# Altium footprint library BasicLib.PcbLib: 20 footprints (part 1 of 2)
Each footprint in its own frame and in the unit in brackets; x right, y up, seen from the top. Pads: shape width x height; smd on the part's side, far side on the other; paste and mask are expansions set on the pad; w line width, h text height; cw(c..) or ccw(c..) is an arc to the next point about the centre after c.
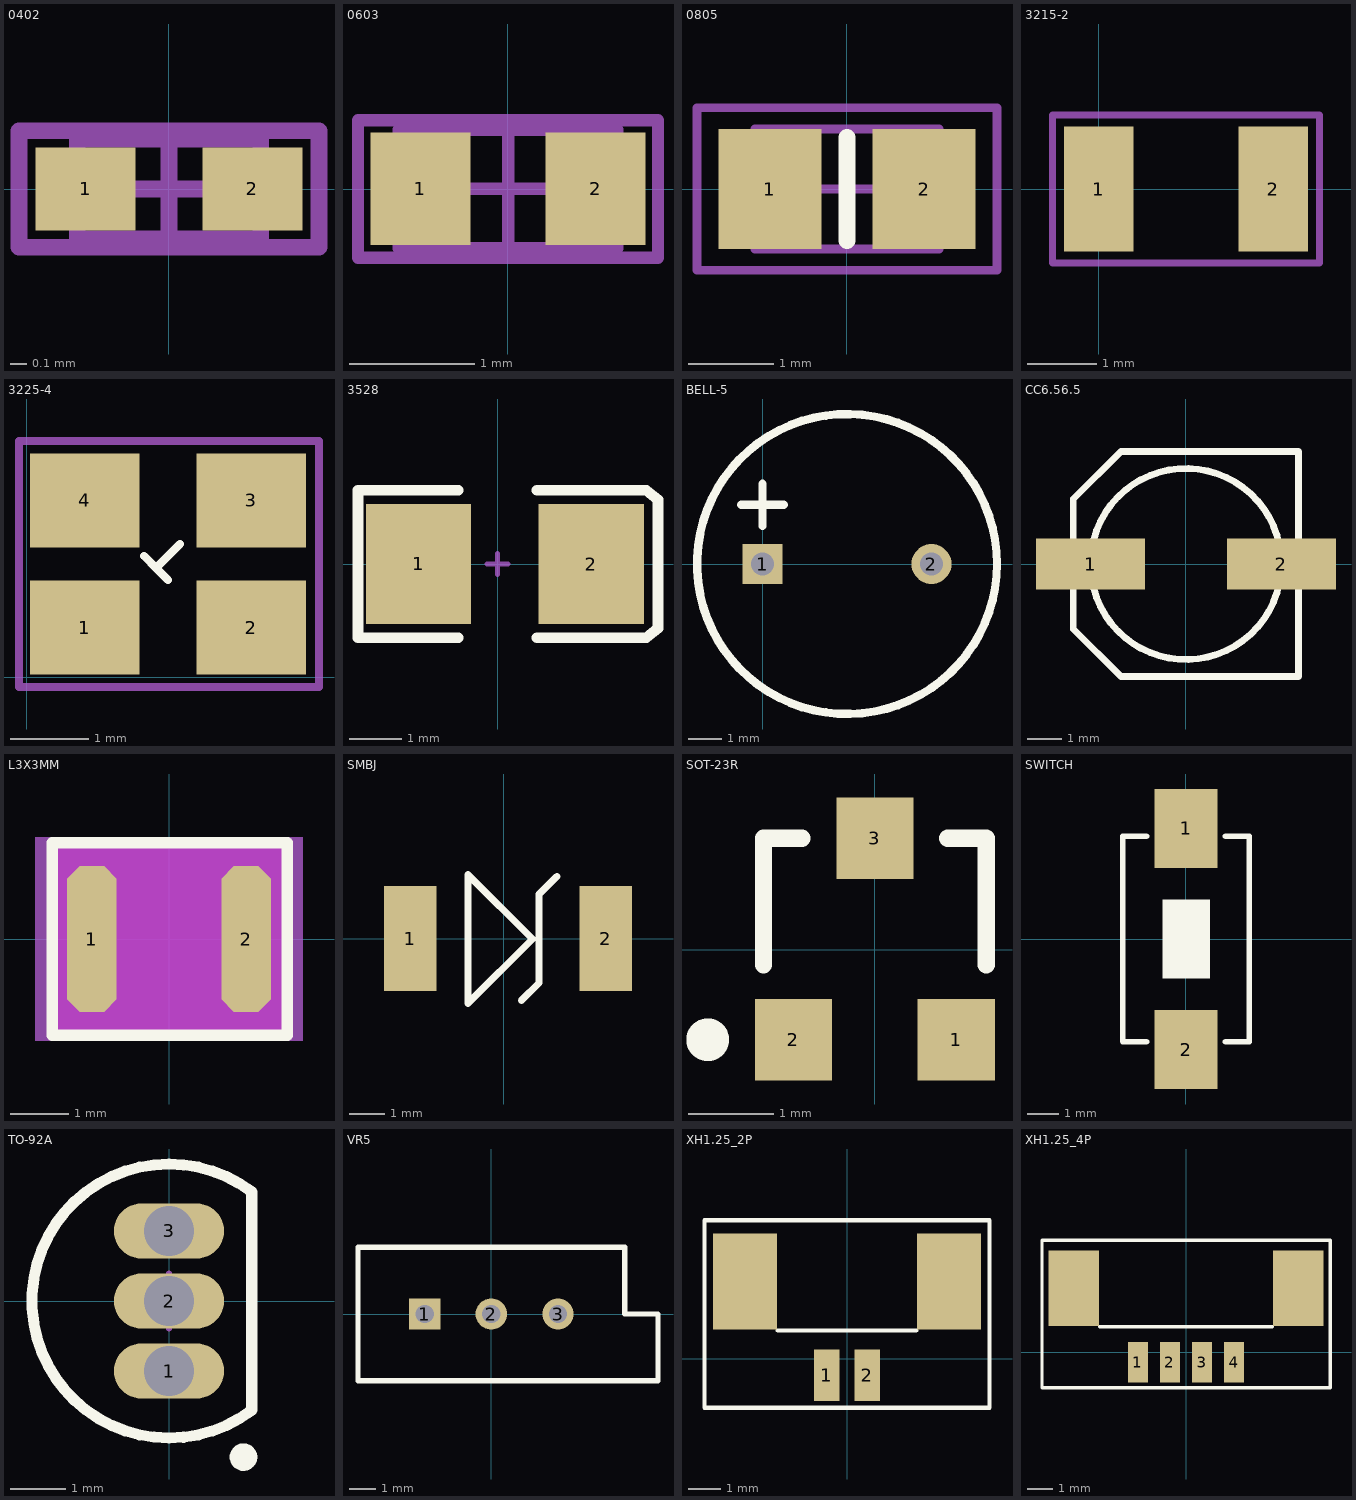
[diagram p0: the footprints below, top view; thin cyan lines are the x and y axes]

## 0402 [mm] "Chip Capacitor, Body 1.0x0.5mm, IPC High Density"
height 1.3
pads (2):
  rect 0.6x0.5 smd: 1(-0.5,0) 2(0.5,0)
Mechanical 13:
  lines w0.1: -0.55,-0.3 -0.55,0.3 0.55,0.3 0.55,-0.3 -0.55,-0.3
Mechanical 15:
  lines w0.1: -0.3,0 0.3,0 ; 0,-0.3 0,0.3 ; -0.9,-0.35 -0.9,0.35 0.9,0.35 0.9,-0.35 -0.9,-0.35
3D body: height 1.3, standoff 0, extent -0.55,-0.3 0.55,0.3

## 0603 [mm] "Chip Capacitor, Body 1.6x0.8mm, IPC High Density"
height 1.3
pads (2):
  rect 0.8x0.9 smd: 1(-0.7,0) 2(0.7,0)
Mechanical 13:
  lines w0.1: -0.875,-0.475 0.875,-0.475 0.875,0.475 -0.875,0.475 -0.875,-0.475
Mechanical 15:
  lines w0.1: -0.475,0 0.475,0 ; 0,-0.475 0,0.475 ; -1.2,-0.55 1.2,-0.55 1.2,0.55 -1.2,0.55 -1.2,-0.55
3D body: height 1.3, standoff 0, extent -0.875,-0.475 0.875,0.475

## 0805 [mm] "Chip Resistor, Body 2.0x1.2mm, IPC Medium Density"
height 1.3
pads (2):
  rect 1.2x1.4 smd: 1(-0.9,0) 2(0.9,0)
Top Overlay:
  lines w0.2: 0,-0.6 0,0.6
Mechanical 13:
  lines w0.1: -1.075,-0.7 -1.075,0.7 1.075,0.7 1.075,-0.7 -1.075,-0.7
Mechanical 15:
  lines w0.1: -0.5,0 0.5,0 ; 0,-0.5 0,0.5 ; -1.75,-0.95 -1.75,0.95 1.75,0.95 1.75,-0.95 -1.75,-0.95
3D body: height 0.7, standoff 0, extent -1.075,-0.7 1.075,0.7

## 3215-2 [mm] "XTAL"
pads (2):
  rect 1x1.8 smd: 1(0,0) 2(2.515,0)
Mechanical 15:
  lines w0.102: -0.66,-1.067 -0.66,1.067 3.175,1.067 3.175,-1.067 -0.66,-1.067

## 3225-4 [mm] "XTAL"
pads (4):
  rect 1.4x1.2 smd: 1(0.737,0.635) 2(2.87,0.635) 3(2.87,2.261) 4(0.737,2.261)
Top Overlay:
  lines w0.102: 1.499,1.549 1.651,1.397 ; 1.803,1.245 1.651,1.397 ; 1.956,1.702 1.651,1.397
Mechanical 15:
  lines w0.102: -0.102,-0.127 3.734,-0.127 3.734,3.023 -0.102,3.023 -0.102,-0.127

## 3528 [mm] "SM LED; 2 C-Bend Leads; Body 3.5 x 2.8 x 1.9 mm, inc leads (LxWxH typ)"
height 1.9
pads (2):
  rect 2x2.28 smd: 1(-1.5,0) 2(1.778,0)
Top Overlay:
  lines w0.2: -0.75,-1.4 -2.65,-1.4 -2.65,1.4 -0.75,1.4 ; 0.75,-1.397 2.829,-1.397 3.048,-1.222 3.048,1.222 2.829,1.397 0.75,1.397
Mechanical 1:
  lines w0.1: -0.2,0 0.2,0 ; 0,-0.2 0,0.2

## BELL-5 [mm]
pads (2):
  rect 1.2x1.2 hole 0.7: 1(0,0)
  round 1.2 hole 0.7: 2(5.08,0)
Top Overlay:
  circle w0.254: c2.54,0 r4.51
  lines w0.254: -0.635,1.778 0.635,1.778 ; 0,1.143 0,2.413

## CC6.56.5 [mm]
pads (2):
  rect 3.2x1.5 smd: 1(-2.794,0) 2(2.8,0)
Top Overlay:
  circle w0.2: c0,0 r2.8
  lines w0.2: -3.302,-1.905 -1.905,-3.302 3.302,-3.302 3.302,3.302 -1.905,3.302 -3.302,1.905 -3.302,-1.905

## L3X3MM [mm] "L3X3MM"
pads (2):
  oct 0.846x2.5 smd: 1(-1.325,0) 2(1.325,0)
Top Overlay:
  lines w0.2: 2.032,-1.651 2.032,1.651 ; 2.032,-1.65 -2.007,-1.651 -2.007,1.651 2.032,1.65
Keep-Out Layer:
  pour cut-out: -2.007,-1.651 2.032,-1.65 2.032,1.65 -2.007,1.651
Mechanical 9:
  text "2" at 1.325,-0.16 h0.4
  text "1" at -1.325,-0.16 h0.4
Mechanical 10:
  region: -2.3,-1.75 2.3,-1.75 2.3,1.75 -2.3,1.75
Mechanical 12:
  pour cut-out: -1.55,-1.55 1.55,-1.55 1.55,1.55 -1.55,1.55

## SMBJ [mm]
pads (2):
  rect 1.5x3 smd: 1(-2.667,0) 2(2.921,0)
Top Overlay:
  lines w0.203: 0.508,-1.778 1.016,-1.27 1.016,1.27 1.524,1.778 ; -1.016,-1.854 -1.016,1.829 0.826,-0.013 -1.016,-1.854

## SOT-23R [mm]
pads (3):
  rect 0.9x0.95 smd: 1(0.95,-1.048) 2(-0.95,-1.048) 3(0,1.302)
Top Overlay:
  circle w0.25: c-1.95,-1.048 r0.125
  lines w0.2: -1.3,-0.173 -1.3,1.302 -0.85,1.302 ; 0.85,1.302 1.3,1.302 1.3,-0.173

## SWITCH [mm]
pads (2):
  rect 2x2.5 smd: 1(0,3.5) 2(0,-3.5)
Top Overlay:
  region: -0.747,1.253 -0.747,-1.247 0.753,-1.247 0.753,1.253
  lines w0.178: -1.25,-3.25 -2,-3.246 -2,3.25 -1.25,3.25 ; 1.25,-3.25 2,-3.25 2,3.25 1.25,3.25
3D body: height 0.8, standoff 0, extent -2.032,-3.231 2.032,3.246
3D body: height 1.2, standoff 0.8, extent -0.762,-1.199 0.762,1.214

## TO-92A [mm] "TO, Flat Index; 3 In-Line, Axial Leads; Body Dia. 4.5mm; Leads 0.51 x 0.48 mm (max)"
height 6.86
pads (3):
  oval 2x1 hole 0.9: 1(0,-1.27) 2(0,0) 3(0,1.27)
Top Overlay:
  circle w0.25: c1.35,-2.83 r0.125
  lines w0.2: 1.5,-1.98 cw(c0,0) 1.5,1.98 1.5,-1.98
Mechanical 13:
  lines w0.1: 1.5,-1.98 cw(c0,0) 1.5,1.98 1.5,-1.98
Mechanical 15:
  lines w0.1: -0.5,0 0.5,0 ; 0,-0.5 0,0.5
3D body: height 6.86, standoff 2.2, extent -2.485,-2.495 1.501,2.495

## VR5 [mm] "Thru-Hole; 3 Leads"
height 9.6
pads (3):
  rect 1.2x1.2 hole 0.7: 1(-2.54,0)
  round 1.2 hole 0.7: 2(0,0) 3(2.54,0)
Top Overlay:
  lines w0.2: -5.08,-2.54 -5.08,2.54 5.08,2.54 5.08,0 6.35,0 6.35,-2.54 -5.08,-2.54

## XH1.25_2P [mm]
pads (4):
  rect 0.8x1.6 smd: 1(-0.635,-0.508) 2(0.635,-0.508)
  rect 2x3 smd: ""(-3.175,2.413) ""(3.175,2.413)
Top Overlay:
  lines w0.127: -2.159,0.889 2.159,0.889 ; -4.438,-1.524 -4.438,4.318 4.445,4.318 4.445,-1.524 -4.438,-1.524

## XH1.25_4P [mm]
pads (6):
  rect 0.8x1.6 smd: 1(-1.905,-0.381) 2(-0.635,-0.381) 3(0.635,-0.381) 4(1.905,-0.381)
  rect 2x3 smd: ""(-4.445,2.54) ""(4.445,2.54)
Top Overlay:
  lines w0.127: -3.429,1.016 3.429,1.016 ; -5.708,-1.397 -5.708,4.445 5.715,4.445 5.715,-1.397 -5.708,-1.397